# EAGLE library part MLX90316 (library MLX90316)
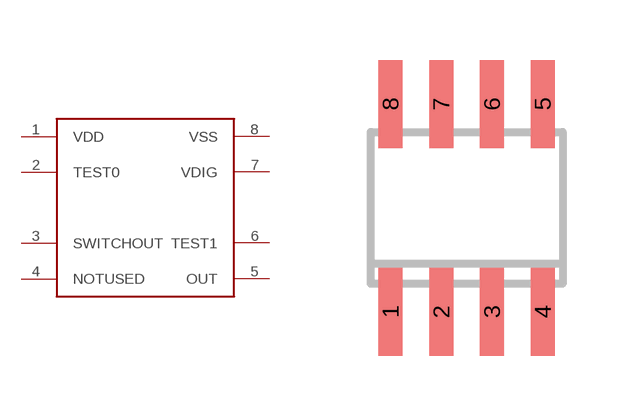
[diagram p0: symbol with the pads of SO-08; footprint SO-08]

Designator prefix -

## MLX90316  [SO-08]
1  VDD  in
2  TEST0
3  SWITCHOUT
4  NOTUSED
5  OUT  out
6  TEST1
7  VDIG
8  VSS  out

## Footprint SO-08 (pad centres in mm)
Small Outline Narrow Plastic Gull Wing 150-mil body, package type SN
smd 0.6 x 2.2: 1 -1.905,-2.6; 2 -0.635,-2.6; 3 0.635,-2.6; 4 1.905,-2.6; 5 1.905,2.6; 6 0.635,2.6; 7 -0.635,2.6; 8 -1.905,2.6